# Altium footprint library HX711_PCB_Lib.PcbLib: 1 footprints
Each footprint in its own frame and in the unit in brackets; x right, y up, seen from the top. Pads: shape width x height; smd on the part's side, far side on the other; paste and mask are expansions set on the pad; w line width, h text height; cw(c..) or ccw(c..) is an arc to the next point about the centre after c.
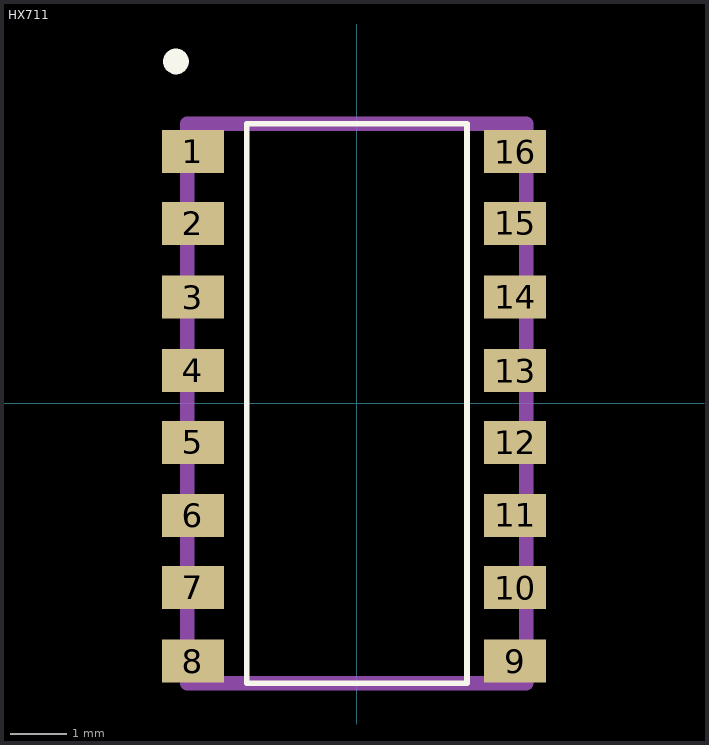
[diagram p0: the footprint, top view; thin cyan lines are the x and y axes]

## HX711 [mm]
pads (16):
  rect 1.1x0.76 smd: 1(-2.9,4.453) 2(-2.9,3.183) 3(-2.9,1.88) 4(-2.9,0.58) 5(-2.9,-0.69) 6(-2.9,-1.98) 7(-2.9,-3.26) 8(-2.9,-4.56) 9(2.8,-4.56) 10(2.8,-3.26) 11(2.8,-1.98) 12(2.8,-0.69) 13(2.8,0.58) 14(2.8,1.88) 15(2.8,3.183) 16(2.8,4.453)
Top Overlay:
  circle w0.254: c-3.2,6.05 r0.1
  lines w0.1: -1.95,-4.95 1.95,-4.95 1.95,4.95 -1.95,4.95 -1.95,-4.95
Mechanical 1:
  lines w0.254: -3,-4.95 3,-4.95 3,4.95 -3,4.95 -3,-4.95
3D body "CD4009 SOIC-16.STEP": height 1.95, standoff 0, extent -3.1,-5.045 3.1,4.975